# EAGLE library part SD_CARD_MODULE (library Inventory)
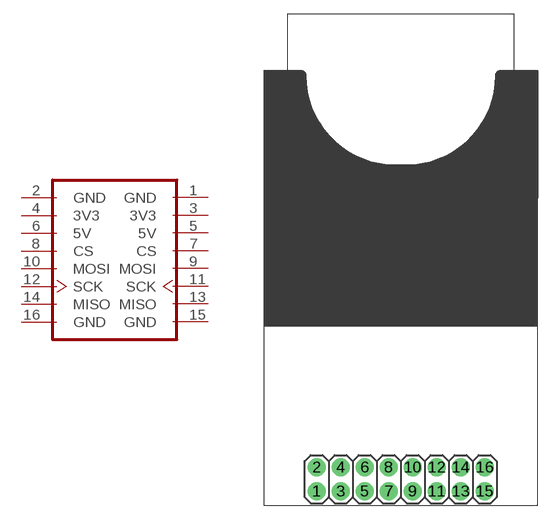
[diagram p5: symbol with the pads of SD_CARD_MODULE; footprint SD_CARD_MODULE]

Designator prefix -

## SD_CARD_MODULE  [SD_CARD_MODULE]
1  1  sup
2  2  sup
3  3  pwr
4  4  pwr
5  5  pwr
6  6  pwr
7  7  in
8  8  in
9  9  in
10  10  in
11  11  in
12  12  in
13  13  out
14  14  out
15  15  sup
16  16  sup

## Footprint SD_CARD_MODULE (pad centres in mm)
SD Card Reader Pins from left to right: Ground 3.3 Volts VCC 5 Volts VCC Chip Select Master Out, Slave In Clock Master In, Slave Out Ground The pins on the top row are the same as and connected to the pin directly below it.
drill 1.016 pad 1.88: 1 -8.9,-1.25; 2 -8.9,1.29; 3 -6.36,-1.25; 4 -6.36,1.29; 5 -3.82,-1.25; 6 -3.82,1.29; 7 -1.28,-1.25; 8 -1.28,1.29; 9 1.26,-1.25; 10 1.26,1.29; 11 3.8,-1.25; 12 3.8,1.29; 13 6.34,-1.25; 14 6.34,1.29; 15 8.88,-1.25; 16 8.88,1.29